# Altium schematic symbol library R7FA0E1073CFJ#AA0.SchLib: 1 symbol
Pins are listed as number, name and electrical type; pins without a type are passive.

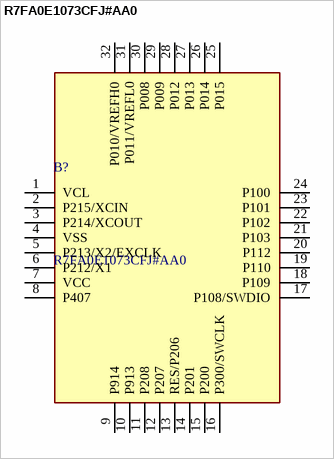
[diagram p0: symbol R7FA0E1073CFJ#AA0]

## R7FA0E1073CFJ#AA0
designator B?
ARM Microcontrollers - MCU MCU RA0E1 ARM CM23 32MHZ 64K/12K LQFP32; Manufacturer_Name: Renesas Electronics; Geometry.Height: 1.7mm; Mouser Part Number: 968-R7FA0E1073CFJAA0; Mouser Price/Stock: https://www.mouser.co.uk/ProductDetail/Renesas-Electronics/R7FA0E1073CFJAA0?qs=dbcCsuKDzFXyHMOxNyxu4w%3D%3D; Manufacturer_Part_Number: R7FA0E1073CFJ#AA0; Datasheet Link: https://www.renesas.com/us/en/products/microcontrollers-microprocessors/ra-cortex-m-mcus/ra0e1-32mhz-arm-cortex-m23-entry-level-ultra-low-power-general-purpose-microcontroller
footprint QFP80P900X900X170-32N
pins: 1 VCL, 2 P215/XCIN, 3 P214/XCOUT, 4 VSS, 5 P213/X2/EXCLK, 6 P212/X1, 7 VCC, 8 P407, 9 P914, 10 P913, 11 P208, 12 P207, 13 RES/P206, 14 P201, 15 P200, 16 P300/SWCLK, 17 P108/SWDIO, 18 P109, 19 P110, 20 P112, 21 P103, 22 P102, 23 P101, 24 P100, 25 P015, 26 P014, 27 P013, 28 P012, 29 P009, 30 P008, 31 P011/VREFL0, 32 P010/VREFH0